# EAGLE library part MCP2518FD (library HyTechDevices - Capacitors)
MCP2518FD Can Controller Datasheet <https://www.mouser.com/datasheet/2/268/External_CAN_FD_Controller_with_SPI_Interface_DS20-1947957.pdf>
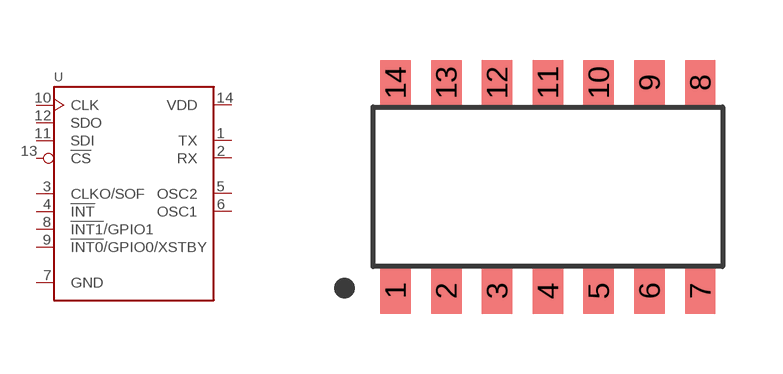
[diagram p6: symbol with the pads of SOIC-14; footprint SOIC-14]

Designator prefix U

## MCP2518FD (DKPN: MCP2518FDT-E/SLCT-ND; MANUFACTURER: Microchip Technology; MOPN: 579-MCP2518FDT-E/SL; MPN: MCP2518FDT-E/SL)  [SOIC-14]
1  TX  out
2  RX  in
3  CLKO/SOF  out
4  !INT  out
5  OSC2  out
6  OSC1  in
7  GND  pwr
8  !INT1!/GPIO1
9  !INT0!/GPIO0/XSTBY
10  CLK  in
11  SDI  in
12  SDO  out
13  !CS  in
14  VDD  pwr

## Footprint SOIC-14 (pad centres in mm)
SOIC-14 Datasheet <https://www.analog.com/media/en/package-pcb-resources/package/pkg_pdf/ltc-legacy-soic/05081610_G_S14.pdf>
smd 0.762 x 1.143: 1 -3.81,-2.603; 2 -2.54,-2.603; 3 -1.27,-2.603; 4 0,-2.603; 5 1.27,-2.603; 6 2.54,-2.603; 7 3.81,-2.603; 8 3.81,2.603; 9 2.54,2.603; 10 1.27,2.603; 11 0,2.603; 12 -1.27,2.603; 13 -2.54,2.603; 14 -3.81,2.603